# Altium footprint library battery.PcbLib: 1 footprints
Each footprint in its own frame and in the unit in brackets; x right, y up, seen from the top. Pads: shape width x height; smd on the part's side, far side on the other; paste and mask are expansions set on the pad; w line width, h text height; cw(c..) or ccw(c..) is an arc to the next point about the centre after c.
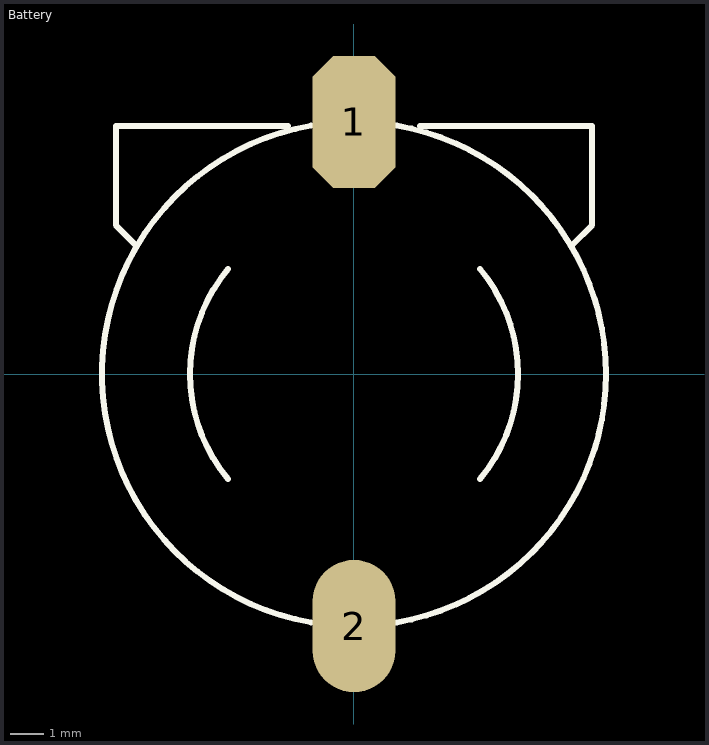
[diagram p0: the footprint, top view; thin cyan lines are the x and y axes]

## Battery [mm] "电源座"
pads (4):
  oct 2.5x4 smd: 1(0.012,7.62)
  oval 2.5x4 smd: 2(0.012,-7.62)
  round 0 all layers, no hole: ""(-0.012,3.75) ""(0.012,-3.75)
Top Overlay:
  lines w0.178: -6.613,3.925 -7.188,4.5 -7.188,7.5 -1.987,7.5 ; -3.8,-3.172 cw(c0.012,0) -3.797,3.175 ; -0.821,-7.574 cw(c0.012,0) -0.821,7.574 ; 0.846,-7.574 ccw(c0.012,0) 7.632,0 ccw(c0.012,0) 0.846,7.574 ; 2.012,7.5 7.213,7.5 7.213,4.5 6.612,3.9 ; 3.825,-3.172 ccw(c0.012,0) 3.827,3.169